# EAGLE library part TDA7376B (library Oles komponentbibliotek)
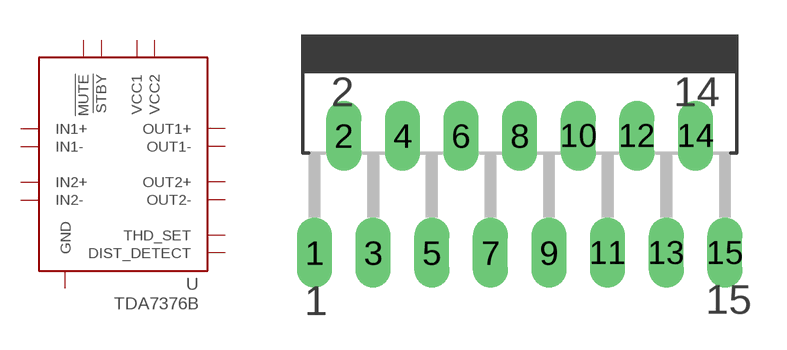
[diagram p34: symbol with the pads of MULTIWATT-15; footprint MULTIWATT-15]

Designator prefix -

## TDA7376B  [MULTIWATT-15]
1  OUT1+  out
2  OUT1-  out
3  VCC1  pwr
4  IN1+  in
5  IN1-  in
6  !MUTE  in
7  !STBY  in
8  GND  pwr
9  THD_SET  in
10  DIST_DETECT  out
11  IN2-  in
12  IN2+  in
13  VCC2  pwr
14  OUT2-  out
15  OUT2+  out

## Footprint MULTIWATT-15 (pad centres in mm)
Multiwatt 15 lead
drill 1.016 long: 1 -8.89,-7.62; 2 -7.62,-2.54; 3 -6.35,-7.62; 4 -5.08,-2.54; 5 -3.81,-7.62; 6 -2.54,-2.54; 7 -1.27,-7.62; 8 0,-2.54; 9 1.27,-7.62; 10 2.54,-2.54; 11 3.81,-7.62; 12 5.08,-2.54; 13 6.35,-7.62; 14 7.62,-2.54; 15 8.89,-7.62